# Altium schematic symbol library eUSR_SchLibrary - ICs.SchLib: 7 symbols
Pins are listed as number, name and electrical type; pins without a type are passive.

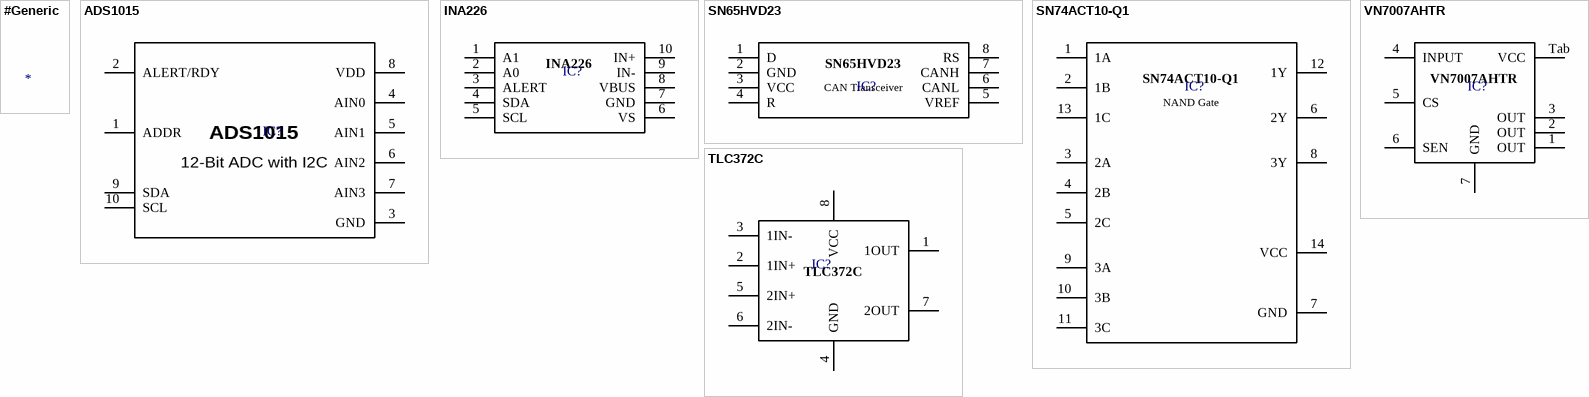
[diagram p0: symbols #Generic to VN7007AHTR]

## #Generic
designator ?
Manufacturing: #####; Value: #####; Package: #####; Price: #####; PN: #####; ComponentLink1Description: Datasheet; ComponentLink1URL: #####; ComponentLink2Description: Distributor Link; ComponentLink2URL: #####; Distributor: #####; Distributor PN: #####

## ADS1015
designator IC?  (value not drawn)
ComponentLink1Description: Datasheet; ComponentLink2Description: Distributor Link
pins: 1 ADDR, 2 ALERT/RDY, 3 GND (power), 4 AIN0, 5 AIN1, 6 AIN2, 7 AIN3, 8 VDD (power), 9 SDA, 10 SCL
text: 12-Bit ADC with I2C

## INA226
designator IC?  (value not drawn)
ComponentLink1Description: Datasheet; ComponentLink2Description: Distributor Link
pins: 1 A1, 2 A0, 3 ALERT, 4 SDA, 5 SCL, 6 VS, 7 GND, 8 VBUS, 9 IN-, 10 IN+

## SN65HVD23
designator IC?  (value not drawn)
ComponentLink1Description: Datasheet; ComponentLink2Description: Distributor Link
pins: 1 D, 2 GND, 3 VCC, 4 R, 5 VREF, 6 CANL, 7 CANH, 8 RS
text: CAN Transceiver

## SN74ACT10-Q1
designator IC?  (value not drawn)
ComponentLink1Description: Datasheet; ComponentLink2Description: Distributor Link
pins: 1 1A, 2 1B, 3 2A, 4 2B, 5 2C, 6 2Y, 7 GND, 8 3Y, 9 3A, 10 3B, 11 3C, 12 1Y, 13 1C, 14 VCC
text: NAND Gate

## TLC372C
designator IC?  (value not drawn)
ComponentLink1Description: Datasheet; ComponentLink2Description: Distributor Link
pins: 1 1OUT, 2 1IN+, 3 1IN-, 4 GND, 5 2IN+, 6 2IN-, 7 2OUT, 8 VCC

## VN7007AHTR
designator IC?  (value not drawn)
ComponentLink1Description: Datasheet; ComponentLink2Description: Distributor Link
pins: 1 OUT, 2 OUT, 3 OUT, 4 INPUT, 5 CS, 6 SEN, 7 GND, Tab VCC